# Altium schematic symbol library Schlib1.SchLib: 3 symbols
Pins are listed as number, name and electrical type; pins without a type are passive.

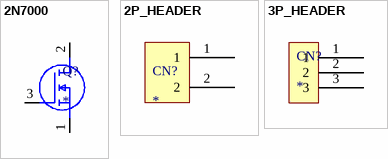
[diagram p0: symbols 2N7000 to 3P_HEADER]

## 2N7000
designator Q?
footprint 2N7000
pins: 1 S, 2 D, 3 G

## 2P_HEADER
designator CN?
footprint 2P_HEADER
pins: 1, 2

## 3P_HEADER
designator CN?
footprint 3P_HEADER
pins: 1, 2, 3